# Altium footprint library CONN_SD-39511-001_04P_MOL.PcbLib: 1 footprints
Each footprint in its own frame and in the unit in brackets; x right, y up, seen from the top. Pads: shape width x height; smd on the part's side, far side on the other; paste and mask are expansions set on the pad; w line width, h text height; cw(c..) or ccw(c..) is an arc to the next point about the centre after c.
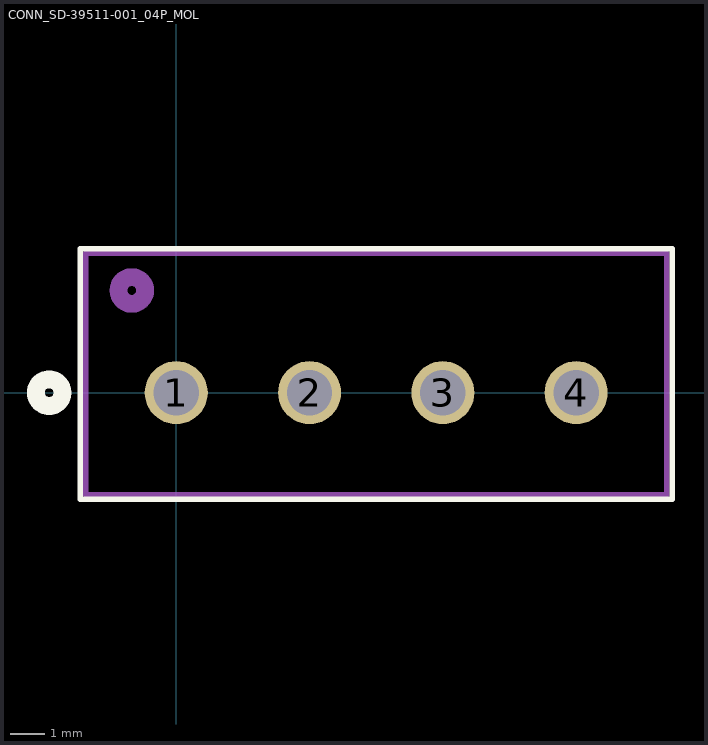
[diagram p0: the footprint, top view; thin cyan lines are the x and y axes]

## CONN_SD-39511-001_04P_MOL [mil]
pads (4):
  round 71 hole 51 mask+4.02: 1(0,0) 2(150,0) 3(300,0) 4(450,0)
Top Overlay:
  lines w6: -108,-120 -108,162 558,162 558,-120 -108,-120
  lines w20: -158,0 cw(c-143,0) -128,0 cw(c-143,0) -158,0
Bottom Overlay:
  lines w20: -158,0 cw(c-143,0) -128,0 cw(c-143,0) -158,0
Assembly Top:
  lines w6: -102,-115 -102,157 552,157 552,-115 -102,-115
  lines w20: -65,115 cw(c-50,115) -35,115 cw(c-50,115) -65,115
3D body "395111004.stp": height 360, standoff -140, extent -102.35,-114.99 552.37,155